# EAGLE library part PINHEAD_1X20 (library pinhead)
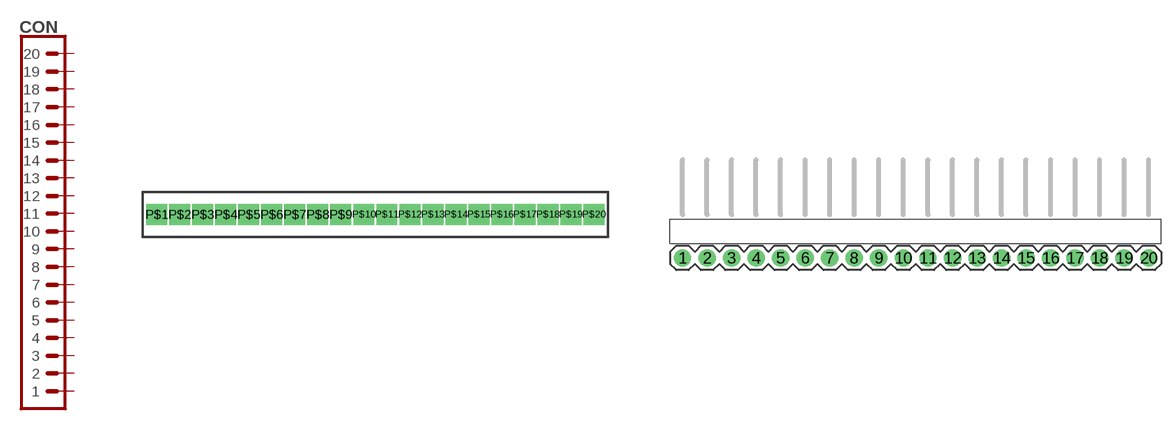
[diagram p10: symbol with the pads of 1X20-PTH-1.27; footprints 1X20-PTH-1.27, 1X20-PTH-2.54-RA]

Designator prefix CON

## PINHEAD_1X20-1.27  [1X20-PTH-1.27]
P$1  1  pas
P$2  2  pas
P$3  3  pas
P$4  4  pas
P$5  5  pas
P$6  6  pas
P$7  7  pas
P$8  8  pas
P$9  9  pas
P$10  10  pas
P$11  11  pas
P$12  12  pas
P$13  13  pas
P$14  14  pas
P$15  15  pas
P$16  16  pas
P$17  17  pas
P$18  18  pas
P$19  19  pas
P$20  20  pas

## PINHEAD_1X20-2.54-RA  [1X20-PTH-2.54-RA]
1  1  pas
2  2  pas
3  3  pas
4  4  pas
5  5  pas
6  6  pas
7  7  pas
8  8  pas
9  9  pas
10  10  pas
11  11  pas
12  12  pas
13  13  pas
14  14  pas
15  15  pas
16  16  pas
17  17  pas
18  18  pas
19  19  pas
20  20  pas

## PINHEAD_1X20-2.54-FEMALE-RA  [1X20-PTH-2.54-FEMALE-RA]
Pads as for 1X20-PTH-2.54-RA

## PINHEAD_1X20-2-MALE  [PLS2-20]
Pads as for 1X20-PTH-2.54-RA

## PINHEAD_1X20-2-FEMALE  [PBS2-20]
Pads as for 1X20-PTH-2.54-RA

## PINHEAD_1X20-2.54-FEMALE  [1X20-PTH-2.54-FEMALE]
Pads as for 1X20-PTH-2.54-RA

## PINHEAD_1X20-2.54-MALE-LONG  [1X20-PTH-2.54-LONG]
Pads as for 1X20-PTH-2.54-RA

## Footprint 1X20-PTH-1.27 (pad centres in mm)
drill 0.65 pad 0.95 square: P$1 -12.065,0; P$2 -10.795,0; P$3 -9.525,0; P$4 -8.255,0; P$5 -6.985,0; P$6 -5.715,0; P$7 -4.445,0; P$8 -3.175,0; P$9 -1.905,0; P$10 -0.635,0; P$11 0.635,0; P$12 1.905,0; P$13 3.175,0; P$14 4.445,0; P$15 5.715,0; P$16 6.985,0; P$17 8.255,0; P$18 9.525,0; P$19 10.795,0; P$20 12.065,0

## Footprint 1X20-PTH-2.54-RA (pad centres in mm)
drill 1 pad 1.8: 1 -24.13,0; 2 -21.59,0; 3 -19.05,0; 4 -16.51,0; 5 -13.97,0; 6 -11.43,0; 7 -8.89,0; 8 -6.35,0; 9 -3.81,0; 10 -1.27,0; 11 1.27,0; 12 3.81,0; 13 6.35,0; 14 8.89,0; 15 11.43,0; 16 13.97,0; 17 16.51,0; 18 19.05,0; 19 21.59,0; 20 24.13,0

## Footprint 1X20-PTH-2.54-FEMALE-RA (pad centres in mm)
drill 1 pad 1.8: 1 -24.13,0; 2 -21.59,0; 3 -19.05,0; 4 -16.51,0; 5 -13.97,0; 6 -11.43,0; 7 -8.89,0; 8 -6.35,0; 9 -3.81,0; 10 -1.27,0; 11 1.27,0; 12 3.81,0; 13 6.35,0; 14 8.89,0; 15 11.43,0; 16 13.97,0; 17 16.51,0; 18 19.05,0; 19 21.59,0; 20 24.13,0

## Footprint PLS2-20 (pad centres in mm)
3D model <https://grabcad.com/library/pls2-connectors-1>
drill 0.8 pad 1.4: 1 -19,0; 2 -17,0; 3 -15,0; 4 -13,0; 5 -11,0; 6 -9,0; 7 -7,0; 8 -5,0; 9 -3,0; 10 -1,0; 11 1,0; 12 3,0; 13 5,0; 14 7,0; 15 9,0; 16 11,0; 17 13,0; 18 15,0; 19 17,0; 20 19,0

## Footprint PBS2-20 (pad centres in mm)
3D model <https://grabcad.com/library/pbs2-connectors-h6-35-1>
drill 0.8 pad 1.4: 1 -19,0; 2 -17,0; 3 -15,0; 4 -13,0; 5 -11,0; 6 -9,0; 7 -7,0; 8 -5,0; 9 -3,0; 10 -1,0; 11 1,0; 12 3,0; 13 5,0; 14 7,0; 15 9,0; 16 11,0; 17 13,0; 18 15,0; 19 17,0; 20 19,0

## Footprint 1X20-PTH-2.54-FEMALE (pad centres in mm)
drill 1 pad 1.7: 1 -24.13,0; 2 -21.59,0; 3 -19.05,0; 4 -16.51,0; 5 -13.97,0; 6 -11.43,0; 7 -8.89,0; 8 -6.35,0; 9 -3.81,0; 10 -1.27,0; 11 1.27,0; 12 3.81,0; 13 6.35,0; 14 8.89,0; 15 11.43,0; 16 13.97,0; 17 16.51,0; 18 19.05,0; 19 21.59,0; 20 24.13,0

## Footprint 1X20-PTH-2.54-LONG (pad centres in mm)
drill 1 pad 1.8: 1 -24.13,0; 2 -21.59,0; 3 -19.05,0; 4 -16.51,0; 5 -13.97,0; 6 -11.43,0; 7 -8.89,0; 8 -6.35,0; 9 -3.81,0; 10 -1.27,0; 11 1.27,0; 12 3.81,0; 13 6.35,0; 14 8.89,0; 15 11.43,0; 16 13.97,0; 17 16.51,0; 18 19.05,0; 19 21.59,0; 20 24.13,0